# Altium footprint library My PCB Library.PcbLib: 24 footprints (part 1 of 2)
Each footprint in its own frame and in the unit in brackets; x right, y up, seen from the top. Pads: shape width x height; smd on the part's side, far side on the other; paste and mask are expansions set on the pad; w line width, h text height; cw(c..) or ccw(c..) is an arc to the next point about the centre after c.
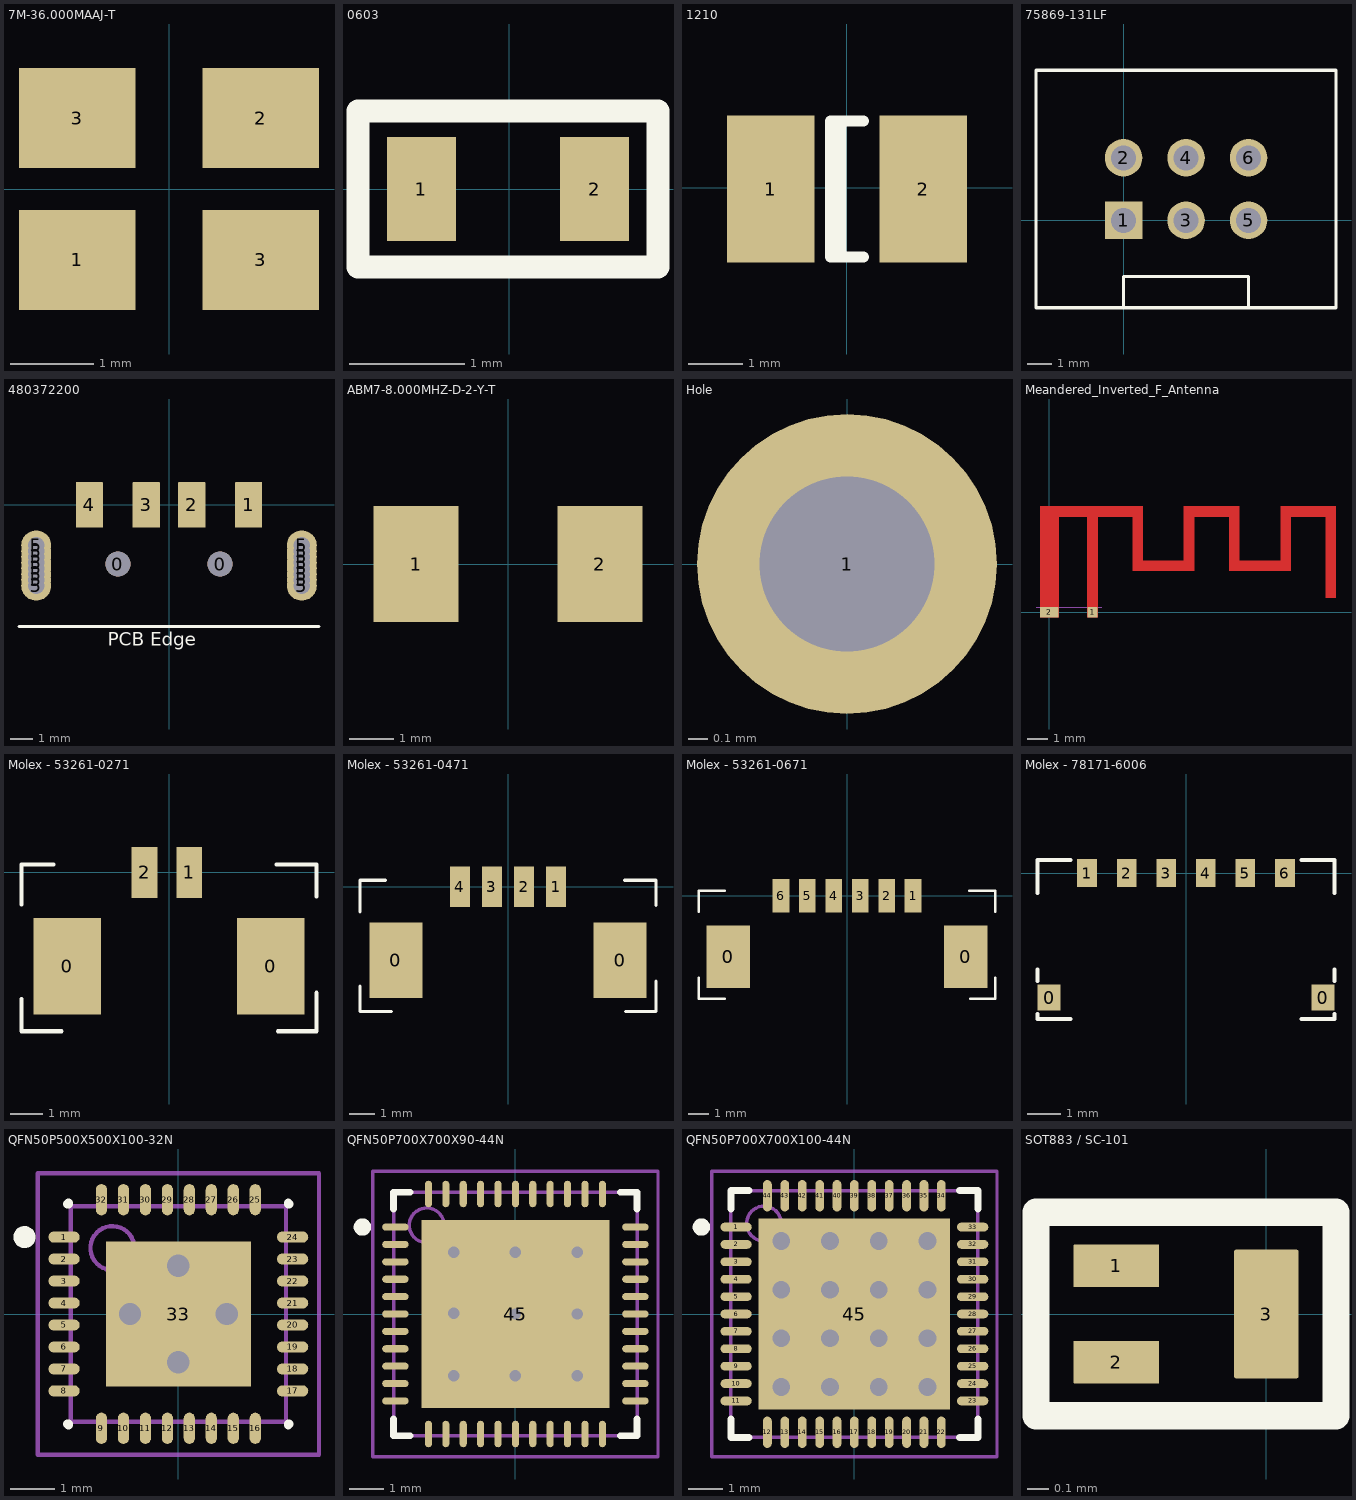
[diagram p0: the footprints below, top view; thin cyan lines are the x and y axes]

## 7M-36.000MAAJ-T [mm] "CRYSTAL 36.000 MHZ 18PF SMD"
height 0.7
pads (4):
  rect 1.4x1.2 smd: 1(-1.1,-0.85) 2(1.1,0.85) 3(-1.1,0.85) 3(1.1,-0.85)

## 0603 [mm] "Non polarized 0603 footprint"
pads (2):
  rect 0.6x0.9 smd: 1(-0.762,0) 2(0.738,0)
Top Overlay:
  lines w0.2: -1.312,-0.675 -1.312,0.675 1.288,0.675 1.288,-0.675 -1.312,-0.675

## 1210 [mm] "Chip Capacitor; Body 3.2 x 2.5 mm (LxW typ)"
pads (2):
  rect 1.6x2.7 smd: 1(-1.398,-0.022) 2(1.402,-0.022)
Top Overlay:
  lines w0.2: -0.108,-1.272 -0.108,1.228 ; 0.302,-1.272 -0.298,-1.272 -0.298,1.228 0.302,1.228

## 75869-131LF [mil] "CONN HEADER 6POS DUAL VERT PCB"
height 376.77
pads (6):
  rect 60x60 hole 40: 1(0,0)
  round 60 hole 40: 2(0,100) 3(100,0) 4(100,100) 5(200,0) 6(200,100)
Top Overlay:
  lines w5: 0,-140 0,-90 200,-90 200,-140 ; -140,-140 -140,240 340,240 340,-140 -140,-140
3D body: height 376.77, standoff 0, extent -140,-140 340,240

## 480372200 [mil] "CONN PLUG USB A 4POS SMD R/A"
height 149.61
pads (22):
  round 43.31 hole 43.31: 0(-88.58,-102.36) 0(88.58,-102.36)
  rrect5% 47.24x78.74 smd: 1(137.8,0) 2(39.37,0) 3(-39.37,0) 4(-137.8,0)
  round 52 hole 28: 5(-230,-140) 5(-230,-130) 5(-230,-120) 5(-230,-110) 5(-230,-100) 5(-230,-90) 5(-230,-80) 5(-230,-70) 5(230,-140) 5(230,-130) 5(230,-120) 5(230,-110) 5(230,-100) 5(230,-90) 5(230,-80) 5(230,-70)
Top Overlay:
  lines w5: -259.84,-210.63 259.84,-210.63
  text "PCB Edge" at -106.3,-244.09 h23.62
3D body: height 149.61, standoff 0, extent -236.22,-208.66 236.22,0
3D body: height 149.61, standoff -27.56, extent -236.22,-799.21 236.22,-208.66

## ABM7-8.000MHZ-D-2-Y-T [mm] "CRYSTAL 8.0000 MHZ 18PF SMD"
height 1.4
pads (2):
  rect 1.9x2.6 smd: 1(-2.05,0) 2(2.05,0)

## Hole [mil] "A hole to solder a wire to."
pads (1):
  round 60 hole 35: 1(0,0)

## Meandered_Inverted_F_Antenna [mm]
pads (2):
  rect 0.5x0.5 smd mask+0: 1(2.1,0)
  rect 0.9x0.5 smd mask+0: 2(0,0)
Top Layer:
  region: -0.45,-0.25 -0.45,5.15 0.45,5.15 0.45,-0.25
  region: -0.45,4.65 -0.45,5.15 4.55,5.15 4.55,4.65
  region: 1.85,-0.25 1.85,5.15 2.35,5.15 2.35,-0.25
  region: 4.55,5.15 4.05,5.15 4.05,2.01 4.55,2.01
  region: 4.05,2.01 4.05,2.51 7.05,2.51 7.05,2.01
  region: 7.05,5.15 6.55,5.15 6.55,2.01 7.05,2.01
  region: 6.55,4.65 6.55,5.15 9.25,5.15 9.25,4.65
  region: 11.25,4.65 11.25,5.15 13.95,5.15 13.95,4.65
  region: 11.75,5.15 11.25,5.15 11.25,2.01 11.75,2.01
  region: 8.75,2.01 8.75,2.51 11.75,2.51 11.75,2.01
  region: 9.25,5.15 8.75,5.15 8.75,2.01 9.25,2.01
  region: 13.95,5.15 13.45,5.15 13.45,0.71 13.95,0.71
Mechanical 15:
  lines w0.05: -0.65,0.25 2.55,0.25
  text "GND Plane Edge" at 0.47,0.41 h0.1

## Molex - 53261-0271 [mm] "CONN HEADER 2POS 1.25MM R/A SMD"
height 3.4
pads (4):
  rect 2.1x3 smd: 0(-3.175,-2.921) 0(3.175,-2.921)
  rect 0.8x1.6 smd: 1(0.635,0) 2(-0.762,0)
Top Overlay:
  lines w0.127: -4.595,-3.95 -4.595,-4.95 -3.345,-4.95 ; -4.595,-1 -4.595,0.25 -3.595,0.25 ; 3.345,0.25 4.595,0.25 4.595,-0.75 ; 3.395,-4.95 4.595,-4.95 4.595,-3.75
3D body: height 3.4, standoff 0, extent -4.572,-4.95 4.572,0.25

## Molex - 53261-0471 [mm] "CONN HEADER 4POS 1.25MM R/A SMD"
height 3.4
pads (6):
  rect 2.1x3 smd: 0(-4.445,-2.921) 0(4.445,-2.921)
  rect 0.8x1.6 smd: 1(1.905,0) 2(0.635,0) 3(-0.635,0) 4(-1.905,0)
Top Overlay:
  lines w0.127: -5.865,-3.95 -5.865,-4.95 -4.615,-4.95 ; -5.865,-1 -5.865,0.25 -4.865,0.25 ; 4.615,0.25 5.865,0.25 5.865,-0.75 ; 4.665,-4.95 5.865,-4.95 5.865,-3.75
3D body: height 3.4, standoff 0, extent -5.842,-4.95 5.842,0.25

## Molex - 53261-0671 [mm] "CONN HEADER 6POS 1.25MM R/A SMD"
height 3.4
pads (8):
  rect 2.1x3 smd: 0(-5.715,-2.921) 0(5.715,-2.921)
  rect 0.8x1.6 smd: 1(3.175,0) 2(1.905,0) 3(0.635,0) 4(-0.635,0) 5(-1.905,0) 6(-3.175,0)
Top Overlay:
  lines w0.127: -7.135,-3.95 -7.135,-4.95 -5.885,-4.95 ; -7.135,-0.75 -7.135,0.25 -5.885,0.25 ; 5.885,0.25 7.135,0.25 7.135,-0.75 ; 5.935,-4.95 7.135,-4.95 7.135,-3.95
3D body: height 3.4, standoff 0, extent -7.112,-4.95 7.112,0.25

## Molex - 78171-6006 [mm] "CONN HEADER 6POS 1.20MM R/A SMD"
height 1.65
pads (8):
  rect 0.7x0.8 smd: 0(-4.15,-3.775) 0(4.15,-3.775)
  rect 0.6x0.85 smd: 1(-3,0) 2(-1.8,0) 3(-0.6,0) 4(0.6,0) 5(1.8,0) 6(3,0)
Top Overlay:
  lines w0.127: -4.5,-4.275 -4.5,-4.425 -3.5,-4.425 ; -4.5,-3.275 -4.5,-2.925 ; -4.5,-0.6 -4.5,0.4 -3.5,0.4 ; 3.5,-4.425 4.5,-4.425 4.5,-4.275 ; 3.5,0.4 4.5,0.4 4.5,-0.6 ; 4.5,-3.275 4.5,-2.925
3D body: height 1.65, standoff 0.1, extent -4.5,-4.425 4.5,0.4

## QFN50P500X500X100-32N [mm] "QFN, 32-Leads, Body 4.9x4.9mm (max), Pitch 0.50mm, IPC Medium Density"
height 1
pads (33):
  oval 0.711x0.254 smd: 1(-2.6,1.75) 2(-2.6,1.25) 3(-2.6,0.75) 4(-2.6,0.25) 5(-2.6,-0.25) 6(-2.6,-0.75) 7(-2.6,-1.25) 8(-2.6,-1.75) 17(2.6,-1.75) 18(2.6,-1.25) 19(2.6,-0.75) 20(2.6,-0.25) 21(2.6,0.25) 22(2.6,0.75) 23(2.6,1.25) 24(2.6,1.75)
  oval 0.254x0.711 smd: 9(-1.75,-2.6) 10(-1.25,-2.6) 11(-0.75,-2.6) 12(-0.25,-2.6) 13(0.25,-2.6) 14(0.75,-2.6) 15(1.25,-2.6) 16(1.75,-2.6) 25(1.75,2.6) 26(1.25,2.6) 27(0.75,2.6) 28(0.25,2.6) 29(-0.25,2.6) 30(-0.75,2.6) 31(-1.25,2.6) 32(-1.75,2.6)
  rect 3.3x3.3 smd: 33(0,0)
via -1.098,0 diameter 1.016 hole 0.508
via 0,1.098 diameter 1.016 hole 0.508
via 1.098,0 diameter 1.016 hole 0.508
via 0,-1.098 diameter 1.016 hole 0.508
Top Overlay:
  circle w0.25: c-3.5,1.75 r0.125
  lines w0.2: -2.525,-2.5 -2.5,-2.5 -2.5,-2.525 ; -2.525,2.5 -2.5,2.5 -2.5,2.525 ; 2.5,-2.525 2.5,-2.5 2.525,-2.5 ; 2.5,2.525 2.5,2.5 2.525,2.5
Mechanical 13:
  circle w0.1: c-1.5,1.5 r0.5
  lines w0.1: -2.45,-2.45 -2.45,2.45 2.45,2.45 2.45,-2.45 -2.45,-2.45
Mechanical 15:
  lines w0.1: -0.5,0 0.5,0 ; 0,-0.5 0,0.5 ; -3.2,-3.2 -3.2,3.2 3.2,3.2 3.2,-3.2 -3.2,-3.2
3D body: height 1, standoff 0.02, extent -2.45,-2.45 2.45,2.45

## QFN50P700X700X90-44N [mil] "QFN, 44-Leads, Body 7.0x7.0mm (max), Pitch 0.50mm, IPC Medium Density"
height 35.43
pads (45):
  oval 30x8 smd: 1(-135.83,98.43) 2(-135.83,78.74) 3(-135.83,59.06) 4(-135.83,39.37) 5(-135.83,19.69) 6(-135.83,0) 7(-135.83,-19.68) 8(-135.83,-39.37) 9(-135.83,-59.06) 10(-135.83,-78.74) 11(-135.83,-98.43) 23(135.83,-98.43) 24(135.83,-78.74) 25(135.83,-59.06) 26(135.83,-39.37) 27(135.83,-19.68) 28(135.83,0) 29(135.83,19.69) 30(135.83,39.37) 31(135.83,59.06) 32(135.83,78.74) 33(135.83,98.43)
  oval 8x30 smd: 12(-98.43,-135.83) 13(-78.74,-135.83) 14(-59.06,-135.83) 15(-39.37,-135.83) 16(-19.69,-135.83) 17(0,-135.83) 18(19.68,-135.83) 19(39.37,-135.83) 20(59.06,-135.83) 21(78.74,-135.83) 22(98.43,-135.83) 34(98.43,135.83) 35(78.74,135.83) 36(59.06,135.83) 37(39.37,135.83) 38(19.68,135.83) 39(0,135.83) 40(-19.69,135.83) 41(-39.37,135.83) 42(-59.06,135.83) 43(-78.74,135.83) 44(-98.43,135.83)
  rect 212.6x212.6 smd: 45(0,0)
via -70,1 diameter 25 hole 13
via 70,0 diameter 25 hole 13
via 70,70 diameter 25 hole 13
via -70,-70 diameter 25 hole 13
via -70,70 diameter 25 hole 13
via 0,70 diameter 25 hole 13
via 0,0 diameter 25 hole 13
via 0,-70 diameter 25 hole 13
via 70,-70 diameter 25 hole 13
Top Overlay:
  circle w9.84: c-173.23,98.43 r4.92
  lines w7.87: -137.8,-119.09 -137.8,-137.8 -119.09,-137.8 ; -137.8,119.09 -137.8,137.8 -119.09,137.8 ; 119.09,-137.8 137.8,-137.8 137.8,-119.09 ; 119.09,137.8 137.8,137.8 137.8,119.09
Mechanical 13:
  circle w3.94: c-100.39,100.39 r19.68
  lines w3.94: -137.8,-137.8 -137.8,137.8 137.8,137.8 137.8,-137.8 -137.8,-137.8
Mechanical 15:
  lines w3.94: -19.69,0 19.68,0 ; 0,-19.68 0,19.69 ; -161.42,-161.42 -161.42,161.42 161.42,161.42 161.42,-161.42 -161.42,-161.42
3D body: height 35.43, standoff 0, extent -137.8,-137.8 137.8,137.8

## QFN50P700X700X100-44N [mm] "QFN, 44-Leads, Body 7.1x7.1mm (max), Pitch 0.50mm, IPC Medium Density"
height 1
pads (45):
  oval 0.9x0.25 smd: 1(-3.4,2.5) 2(-3.4,2) 3(-3.4,1.5) 4(-3.4,1) 5(-3.4,0.5) 6(-3.4,0) 7(-3.4,-0.5) 8(-3.4,-1) 9(-3.4,-1.5) 10(-3.4,-2) 11(-3.4,-2.5) 23(3.4,-2.5) 24(3.4,-2) 25(3.4,-1.5) 26(3.4,-1) 27(3.4,-0.5) 28(3.4,0) 29(3.4,0.5) 30(3.4,1) 31(3.4,1.5) 32(3.4,2) 33(3.4,2.5)
  oval 0.25x0.9 smd: 12(-2.5,-3.4) 13(-2,-3.4) 14(-1.5,-3.4) 15(-1,-3.4) 16(-0.5,-3.4) 17(0,-3.4) 18(0.5,-3.4) 19(1,-3.4) 20(1.5,-3.4) 21(2,-3.4) 22(2.5,-3.4) 34(2.5,3.4) 35(2,3.4) 36(1.5,3.4) 37(1,3.4) 38(0.5,3.4) 39(0,3.4) 40(-0.5,3.4) 41(-1,3.4) 42(-1.5,3.4) 43(-2,3.4) 44(-2.5,3.4)
  rect 5.5x5.5 smd: 45(0,0)
via -0.7,0.7 diameter 1.016 hole 0.508
via -0.7,2.1 diameter 1.016 hole 0.508
via -2.1,2.1 diameter 1.016 hole 0.508
via -2.1,0.7 diameter 1.016 hole 0.508
via -2.1,-0.7 diameter 1.016 hole 0.508
via -2.1,-2.1 diameter 1.016 hole 0.508
via -0.7,-2.1 diameter 1.016 hole 0.508
via -0.7,-0.7 diameter 1.016 hole 0.508
via 0.7,-0.7 diameter 1.016 hole 0.508
via 0.7,0.7 diameter 1.016 hole 0.508
via 0.7,2.1 diameter 1.016 hole 0.508
via 2.1,2.1 diameter 1.016 hole 0.508
via 2.1,0.7 diameter 1.016 hole 0.508
via 2.1,-0.7 diameter 1.016 hole 0.508
via 2.1,-2.1 diameter 1.016 hole 0.508
via 0.7,-2.1 diameter 1.016 hole 0.508
Top Overlay:
  circle w0.25: c-4.4,2.5 r0.125
  lines w0.2: -3.55,-3.025 -3.55,-3.55 -3.025,-3.55 ; -3.55,3.025 -3.55,3.55 -3.025,3.55 ; 3.025,-3.55 3.55,-3.55 3.55,-3.025 ; 3.025,3.55 3.55,3.55 3.55,3.025
Mechanical 13:
  circle w0.1: c-2.6,2.6 r0.5
  lines w0.1: -3.55,-3.55 -3.55,3.55 3.55,3.55 3.55,-3.55 -3.55,-3.55
Mechanical 15:
  lines w0.1: -0.5,0 0.5,0 ; 0,-0.5 0,0.5 ; -4.1,-4.1 -4.1,4.1 4.1,4.1 4.1,-4.1 -4.1,-4.1
3D body: height 1, standoff 0.02, extent -3.55,-3.55 3.55,3.55

## SOT883 / SC-101 [mm]
height 0.5
pads (3):
  rrect5% 0.4x0.2 smd: 1(-0.7,0.225) 2(-0.7,-0.225)
  rrect5% 0.3x0.6 smd: 3(0,0)
Top Overlay:
  lines w0.127: -1.075,-0.475 -1.075,0.475 0.325,0.475 0.325,-0.475 -1.075,-0.475
3D body: height 0.5, standoff 0.03, extent -1.05,-0.45 0.3,0.45